# EAGLE library part SN74LVC3G34 (library tccs_reader)
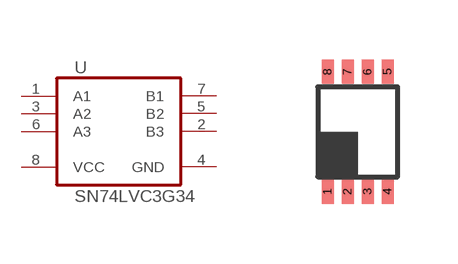
[diagram p9: symbol with the pads of DCU_R-PDSO-G8; footprint DCU_R-PDSO-G8]

Designator prefix -

## SN74LVC3G34DCUR  [DCU_R-PDSO-G8]
1  A1
2  B3
3  A2
4  GND  pwr
5  B2
6  A3
7  B1
8  VCC  pwr

## Footprint DCU_R-PDSO-G8 (pad centres in mm)
DCU (R-PDSO-G8) PLASTIC SMALL-OUTLINE PACKAGE (DIE DOWN) Source: http://focus.ti.com/lit/ds/symlink/sn74lvc2g53.pdf
smd 0.3 x 0.6: 1 -0.75,-1.5; 2 -0.25,-1.5; 3 0.25,-1.5; 4 0.75,-1.5; 5 0.75,1.5; 6 0.25,1.5; 7 -0.25,1.5; 8 -0.75,1.5